# EAGLE library part AE45101H-1225 (library saw-filters-narrowband)
AE45101H-1225 Параметр Ед. изм. Мин. значение Тип. значение Макс. значение Центральная частота МГц 1223 1225 1227 Минимальное вносимое затухание дБ - 2.9 3.5 Полоса среза по уровню -2 дБ МГц 25 28 30.5 Полоса среза по уровню -40 дБ МГц - 121 - Неравномерность АЧХ дБ - 0.6 1.5 Групповое время задержки нс - - - Гарантированное затухание дБ - 50 - Температурный диапазон °C -55 22 +85 Материал подложки - - Танталат лития 36 -
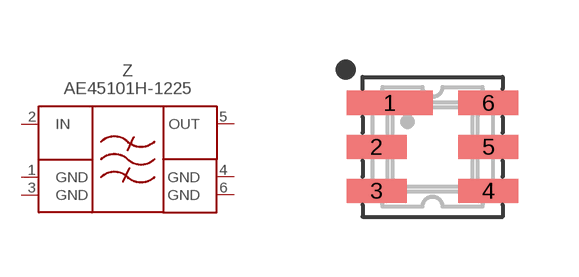
[diagram p60: symbol with the pads of DCC6; footprint DCC6]

Designator prefix Z

## AE45101H-1225  [DCC6]
1  GND  pwr
2  IN  in
3  GND  pwr
4  GND  pwr
5  OUT  out
6  GND  pwr

## Footprint DCC6 (pad centres in mm)
smd 2.15 x 0.6: 1 -1.075,1.1
smd 1.5 x 0.6: 2 -1.4,0; 3 -1.4,-1.1; 4 1.4,-1.1; 5 1.4,0; 6 1.4,1.1